# Altium footprint library PcbLib1.PcbLib: 28 footprints (part 1 of 2)
Each footprint in its own frame and in the unit in brackets; x right, y up, seen from the top. Pads: shape width x height; smd on the part's side, far side on the other; paste and mask are expansions set on the pad; w line width, h text height; cw(c..) or ccw(c..) is an arc to the next point about the centre after c.
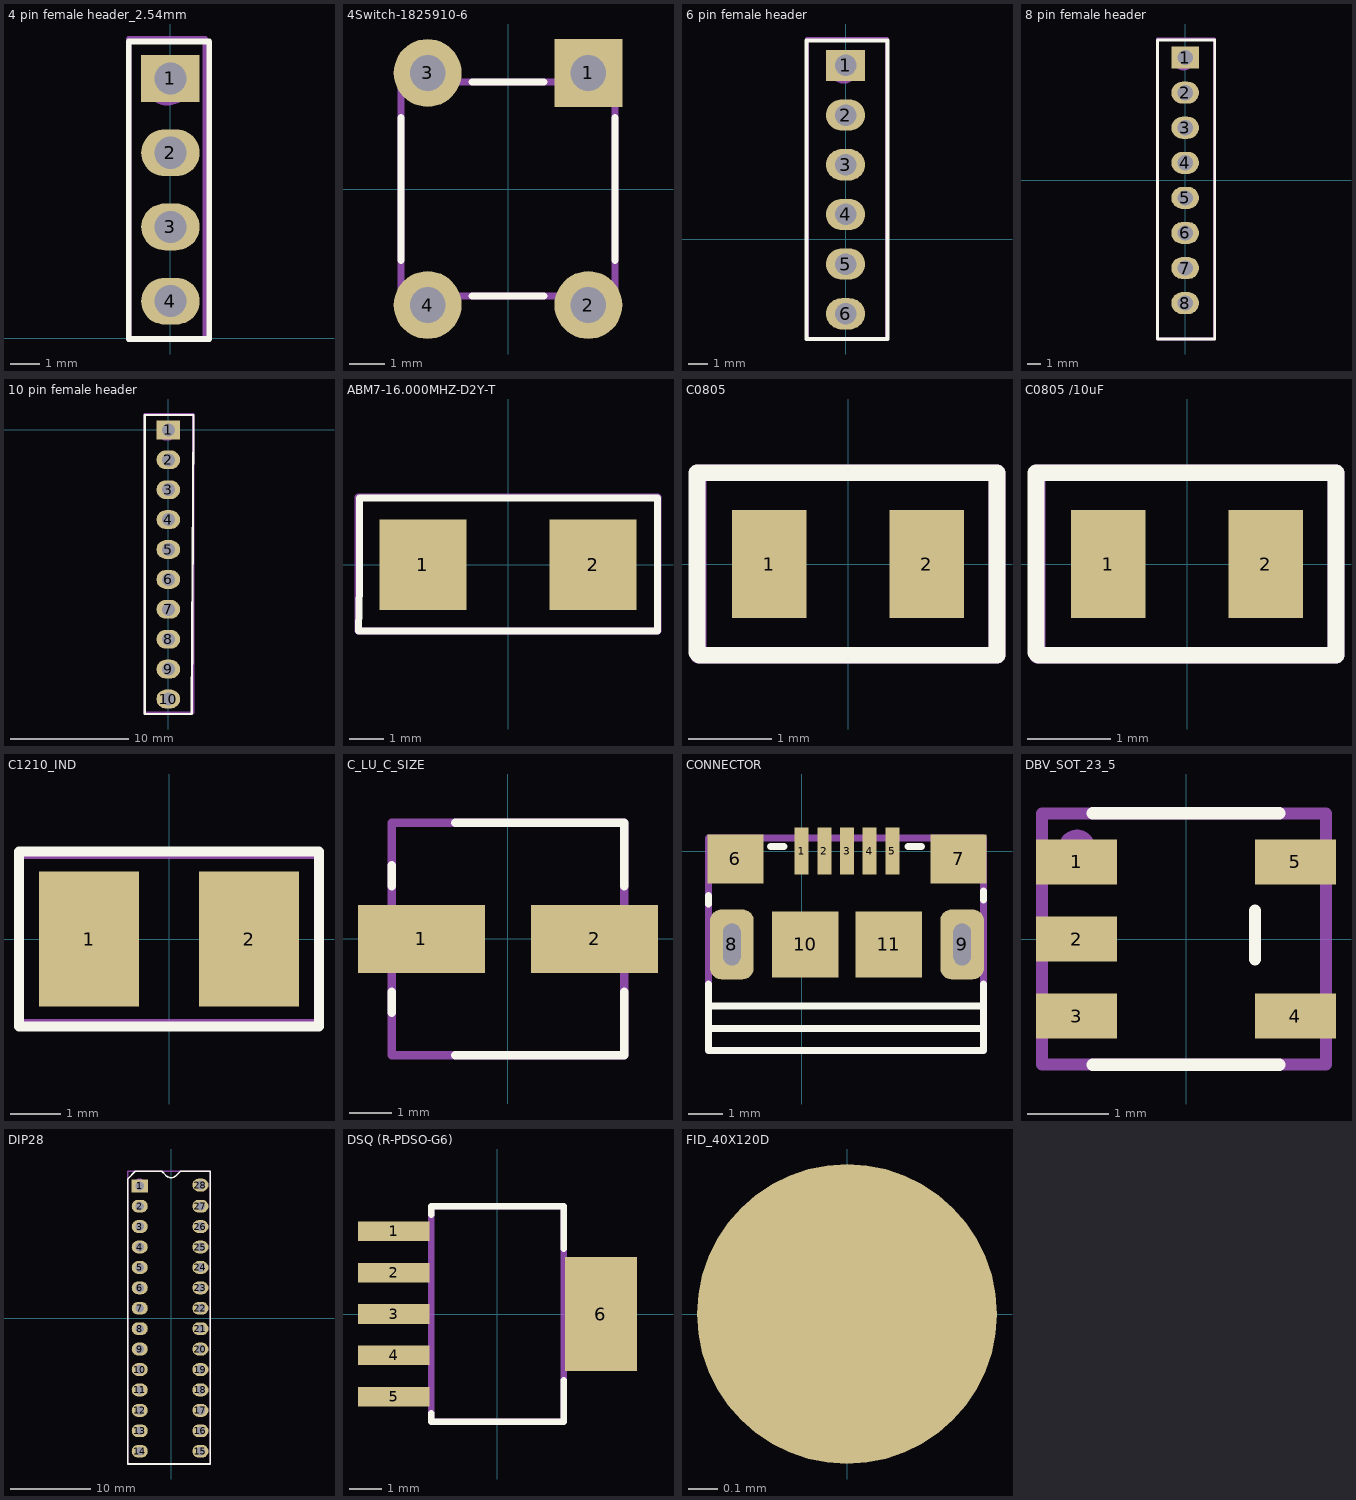
[diagram p0: the footprints below, top view; thin cyan lines are the x and y axes]

## 4 pin female header_2.54mm [mm]
pads (4):
  rect 2x1.6 hole 1.1: 1(0,8.89)
  oval 2x1.6 hole 1.1: 2(0,6.35) 3(0,3.81) 4(0,1.27)
Top Overlay:
  lines w0.2: -1.425,-0.025 1.33,-0.025 1.33,10.16 -1.425,10.16 -1.425,-0.025
Mechanical 29:
  circle w0.9: c-0.1,8.79 r0.372
  lines w0.2: -1.425,-0.025 -1.425,10.24 1.193,10.24 1.193,-0.025 -1.425,-0.025
  text "1" at -2.971,8.269 h1.19
  text ".Designator" at 1.448,1.154 h1.19
3D body "HDR_1x4_White.stp": height 8.4, standoff -3.1, extent -1.26,0.245 1.15,10.005

## 4Switch-1825910-6 [mm]
pads (4):
  rect 1.9x1.9 hole 1: 1(2.25,3.25)
  round 1.9 hole 1: 2(2.25,-3.25) 3(-2.25,3.25) 4(-2.25,-3.25)
Top Overlay:
  lines w0.2: -3,-2 -3,2 ; -1,-3 1,-3 ; -1,3 1,3 ; 3,-2 3,2
Mechanical 29:
  lines w0.2: -3,-3 -3,-2 -3,3 3,3 3,-3 -3,-3
  text ".Designator" at -0.054,-0.041 h0.8
3D body "4pinSwitch-FSM4JH(1825910-6).step": height 5, standoff -3.51, extent -2.995,-3.898 2.995,3.9

## 6 pin female header [mm]
pads (6):
  rect 2x1.6 hole 1.1: 1(0,8.89)
  oval 2x1.6 hole 1.1: 2(0,6.35) 3(0,3.81) 4(0,1.27) 5(0,-1.27) 6(0,-3.81)
Top Overlay:
  lines w0.2: -2,-5.1 -2,10.16 2.145,10.16 2.145,-5.1 1.3,-5.1 -1.925,-5.1
Mechanical 29:
  circle w0.9: c-0.1,8.79 r0.372
  lines w0.2: -1.975,-5.1 -1.975,10.24 2.125,10.24 2.125,-5.1 1.163,-5.1 -0.913,-5.1 -1.975,-5.1
  text "1" at -2.971,8.269 h1.19
  text ".Designator" at 1.448,1.154 h1.19
3D body "m20-7820646_asm.stp": height 8.31, standoff -3.19, extent -1.3,-5.32 1.2,10.32

## 8 pin female header [mm]
pads (8):
  rect 2x1.6 hole 1.1: 1(0,8.89)
  oval 2x1.6 hole 1.1: 2(0,6.35) 3(0,3.81) 4(0,1.27) 5(0,-1.27) 6(0,-3.81) 7(0,-6.35) 8(0,-8.89)
Top Overlay:
  lines w0.2: -2,-11.49 1.225,-11.49 2.145,-11.49 2.145,10.16 -2,10.16 -2,-11.422
Mechanical 29:
  circle w0.9: c-0.1,8.79 r0.372
  lines w0.2: -2.025,-11.49 -0.988,-11.49 1.088,-11.49 2.125,-11.49 2.125,10.24 -1.975,10.24 -2.025,10.24 -2.025,-11.49
  text ".Designator" at 2.098,-3.856 h1.19
  text "1" at -2.971,8.269 h1.19
3D body "M20-7820842--3DModel-STEP-56544.STEP": height 8.31, standoff -3.19, extent -1.25,-10.47 1.25,10.25

## 10 pin female header [mm]
pads (10):
  rect 2x1.6 hole 1.1: 1(0,0)
  oval 2x1.6 hole 1.1: 2(0,-2.54) 3(0,-5.08) 4(0,-7.62) 5(0,-10.16) 6(0,-12.7) 7(0,-15.24) 8(0,-17.78) 9(0,-20.32) 10(0,-22.86)
Top Overlay:
  lines w0.2: -2,-24.13 -2,1.27 2.145,1.27 2,-24.13 -1.9,-24.13
Mechanical 29:
  circle w0.9: c-0.1,-0.1 r0.372
  lines w0.2: -2.025,-24.025 -2.025,1.35 -1.975,1.35 2.125,1.35 2.125,-24.025 -2.025,-24.025
  text "1" at -2.971,-0.621 h1.19
  text ".Designator" at 1.448,-16.571 h1.19
3D body "m20-7821046_asm.stp": height 8.31, standoff -3.19, extent -1.25,-24.33 1.25,1.47

## 28_DIP_7.62mm_SOCKET [mm]
3D body "dil_socket.stp": height 4.2, standoff -3.17, extent 1264.76,1251.532 1274.86,1287.032

## ABM7-16.000MHZ-D2Y-T [mm]
pads (2):
  rect 2.5x2.6 smd: 1(-2.45,0) 2(2.45,0)
Top Overlay:
  lines w0.2: -4.3,-1.9 -4.275,-0.6 -4.275,1.925 -1.725,1.925 4.3,1.925 4.3,-1.9 -4.3,-1.9
Mechanical 29:
  lines w0.2: -4.318,-1.905 4.318,-1.905 4.318,1.956 -4.318,1.956 -4.318,-1.905
  text ".Designator" at -0.918,-0.219 h0.8
3D body "ABM7-16.000MHZ-D2Y-T-CRYSTAL.STEP": height 1.41, standoff 0.01, extent -3,-1.75 3,1.75

## C0805 [mm]
pads (2):
  rect 0.9x1.3 smd: 1(-0.95,0) 2(0.95,0)
Top Overlay:
  lines w0.2: -1.6,-1.1 -0.744,-1.1 0.969,-1.1 ; -0.175,-1.1 -1.8,-1.1 -1.825,-1.075 -1.825,0 -1.825,1.1 -0.919,1.1 0.894,1.1 1.8,1.1 1.8,-1.1 ; 0.9,-1.1 1.78,-1.1
Mechanical 29:
  lines w0.2: 0.8,1.1 1.8,1.1 1.8,-1.1 1.34,-1.1 -1.812,-1.1 -1.812,1.1 -1.8,1.1 0.919,1.1
  text "'.Designator'" at -0.4,-0.433 h0.5
3D body "0805(2012M) Cap.step": height 1.3, standoff 0.01, extent -1,-0.645 1,0.645

## C0805 /10uF [mm]
pads (2):
  rect 0.9x1.3 smd: 1(-0.95,0) 2(0.95,0)
Top Overlay:
  lines w0.2: -1.6,-1.1 -0.744,-1.1 0.969,-1.1 ; -0.175,-1.1 -1.8,-1.1 -1.825,-1.075 -1.825,0 -1.825,1.1 -0.919,1.1 0.894,1.1 1.8,1.1 1.8,-1.1 ; 0.9,-1.1 1.78,-1.1
Mechanical 29:
  lines w0.2: 0.8,1.1 1.8,1.1 1.8,-1.1 1.34,-1.1 -1.812,-1.1 -1.812,1.1 -1.8,1.1 0.919,1.1
  text "'.Designator'" at -0.4,-0.433 h0.5
3D body "0805(2012M) Cap.step": height 1.3, standoff 0.01, extent -1,-0.645 1,0.645

## C1210_IND [mm]
pads (2):
  rect 2x2.7 smd: 1(-1.6,0) 2(1.6,0)
Top Overlay:
  lines w0.2: -3,-1.75 -3,1.75 3,1.75 3,-1.75 -3,-1.75
Mechanical 29:
  lines w0.2: -3,-1.7 3,-1.7 3,1.7 -3,1.7 -3,-1.7
  text ".Designator" at -1.1,-0.067 h0.7
3D body: height 2.7, standoff -0.01, extent -1.6,-1.2 -1.2,1.2
3D body: height 2.7, standoff -0.01, extent 1.2,-1.2 1.6,1.2
3D body: height 2.7, standoff -0.01, extent -1.2,-1.2 1.2,1.2

## C_LU_C_SIZE [mm]
pads (2):
  rect 3x1.6 smd: 1(-2.05,0) 2(2.05,0)
Top Overlay:
  lines w0.2: -2.75,-1.75 -2.75,-1.25 ; -2.75,1.25 -2.75,1.75 ; -1.25,-2.75 2.75,-2.75 2.75,-1.25 ; -1.25,2.75 2.75,2.75 2.75,1.25
Mechanical 29:
  lines w0.2: -2.75,-2.75 2.75,-2.75 2.75,2.75 -2.75,2.75 -2.75,-2.5 -2.75,-2.75
  text ".Designator" at -1.15,-0.167 h0.7
3D body "Capacitor size C.step": height 5.41, standoff -0.01, extent -2.95,-2.65 2.95,2.65

## CONNECTOR [mm]
pads (11):
  rect 0.4x1.35 smd mask+0.05: 1(0,0) 2(0.65,0) 3(1.3,0) 4(1.95,0) 5(2.6,0)
  rect 1.6x1.4 smd mask+0.05: 6(-1.9,-0.225) 7(4.5,-0.225)
  rrect50% 1.25x2 hole 0.5 slot 1.2 at 90 deg unplated paste+0 mask+0.09: 8(-2,-2.675) 9(4.6,-2.675)
  rect 1.9x1.9 smd mask+0.05: 10(0.1,-2.675) 11(2.5,-2.675)
Top Overlay:
  lines w0.2: -2.667,-5.08 5.207,-5.08 5.207,-4.763 5.207,-4.445 -2.667,-4.445 ; -2.667,-3.81 -2.667,-5.715 5.207,-5.715 5.207,-3.81 ; -2.667,-1.524 -2.667,-1.27 ; -0.889,0.127 -0.508,0.127 ; 3.048,0.127 3.429,0.127 ; 5.207,-1.397 5.207,-1.143
Mechanical 29:
  lines w0.2: -2.667,-5.715 5.207,-5.715 5.207,0.381 -2.667,0.381 -2.667,-5.715
  text ".Designator" at -0.131,-3.26 h0.9
3D body "Connector_USB.stp": height 2.88, standoff -0.92, extent -2.658,-5.657 5.198,0.127

## DBV_SOT_23_5 [mm]
pads (5):
  rect 1x0.55 smd: 1(-1.35,0.95) 2(-1.35,0) 3(-1.35,-0.95) 4(1.35,-0.95) 5(1.35,0.95)
Top Overlay:
  lines w0.15: -1.15,-1.55 1.15,-1.55 ; -1.15,1.55 1.15,1.55 ; 0.85,-0.25 0.85,0.35
Mechanical 29:
  circle w0.3: c-1.346,1.118 r0.08
  lines w0.15: -1.778,-1.549 -1.778,1.549 1.727,1.549 1.727,-1.549 -1.778,-1.549
  text ".Designator" at -0.738,-0.191 h0.5
3D body "DBV-TPS560200DBV.step": height 1.45, standoff 0, extent -1.464,-1.5 1.564,1.5

## DIP28 [mm]
pads (28):
  rect 2x1.6 hole 1.1: 1(-3.9,16.5)
  oval 2x1.6 hole 1.1: 2(-3.9,13.97) 3(-3.9,11.43) 4(-3.9,8.89) 5(-3.9,6.35) 6(-3.9,3.81) 7(-3.9,1.27) 8(-3.9,-1.27) 9(-3.9,-3.81) 10(-3.9,-6.35) 11(-3.9,-8.89) 12(-3.9,-11.43) 13(-3.9,-13.97) 14(-3.9,-16.51) 15(3.65,-16.51) 16(3.65,-13.97) 17(3.65,-11.43) 18(3.65,-8.89) 19(3.65,-6.35) 20(3.65,-3.81) 21(3.65,-1.27) 22(3.65,1.27) 23(3.65,3.81) 24(3.65,6.35) 25(3.65,8.89) 26(3.65,11.43) 27(3.65,13.97) 28(3.65,16.6)
Top Overlay:
  lines w0.2: -5.4,-18.1 4.875,-18.1 4.875,18.3 1.155,18.3 0.635,17.78 cw(c0,18.359) -0.635,17.78 -1.155,18.3 -4.45,18.3 -5.4,17.35 -5.4,-18.1
Mechanical 29:
  circle w1: c-3.925,16.8 r0.112
  lines w0.2: -5.4,-18.1 4.875,-18.1 4.875,18.325 2.306,18.325 -2.831,18.325 -5.4,18.325 -5.4,13.15 -5.4,-18.1
  text ".Designator" at 0.659,0.2 h2
3D body "User Library-28 pin dip-1.step": height 3.65, standoff -2.57, extent -4.024,-17.946 3.85,17.996

## DSQ (R-PDSO-G6) [mm]
pads (6):
  rect 2.2x0.6 smd: 1(-3.175,2.54) 2(-3.175,1.27) 3(-3.175,0) 4(-3.175,-1.27) 5(-3.175,-2.54)
  rect 2.2x3.5 smd: 6(3.175,0)
Top Overlay:
  lines w0.2: -2.032,-3.048 -2.032,-3.302 2.032,-3.302 2.032,-2.032 ; -2.032,3.048 -2.032,3.302 2.032,3.302 ; 2.032,2.007 2.032,3.277
Mechanical 29:
  lines w0.2: -2.032,-3.302 2.032,-3.302 2.032,3.302 -2.032,3.302 -2.032,-3.302
  text ".Designator" at -0.278,-0.386 h1.2
3D body "TPS73701DCQ.step": height 1.71, standoff -0.09, extent -3.63,-3.275 3.63,3.275

## FID_40X120D [mil]
pads (1):
  round 40 smd paste-40 mask+40: ""(0,0)